# EAGLE library part PR3BMF51 (library pr3bmf51_relais)
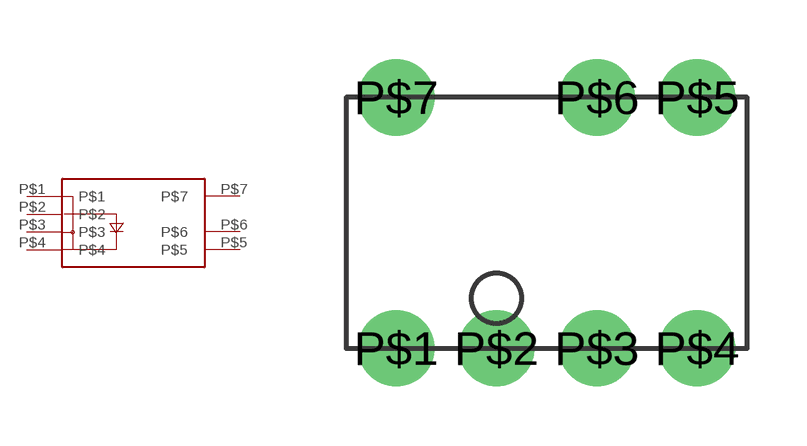
[diagram p0: symbol with the pads of DIP7; footprint DIP7]

Designator prefix -

## PR3BMF51  [DIP7]
P$1  P$1
P$2  P$2
P$3  P$3
P$4  P$4
P$5  P$5
P$6  P$6
P$7  P$7

## Footprint DIP7 (pad centres in mm)
drill 0.8 pad 1.93: P$1 -5.08,-2.54; P$2 -2.54,-2.54; P$3 0,-2.54; P$4 2.54,-2.54; P$5 2.54,3.81; P$6 0,3.81; P$7 -5.08,3.81